# Altium schematic symbol library SHT31-ARP-B.Schlib: 1 symbol
Pins are listed as number, name and electrical type; pins without a type are passive.

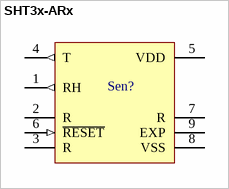
[diagram p0: symbol SHT3x-ARx]

## SHT3x-ARx
designator Sen?
pins: 1 RH (out), 2 R, 3 R, 4 T (out), 5 VDD (power), 6 ~{RESET} (in), 7 R, 8 VSS (power), 9 EXP